# EAGLE library part ESP-WROOM-32 (library FRA_eagle_lib)
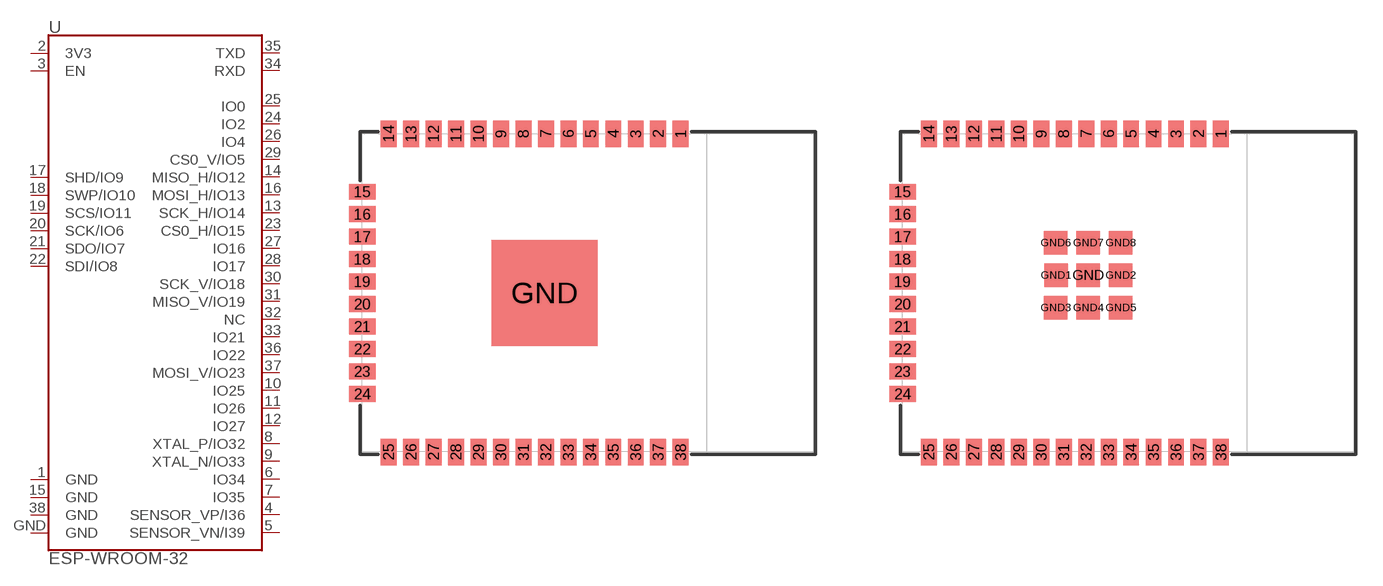
[diagram p3: symbol with the pads of ESP-WROOM-32; footprints ESP-WROOM-32, ESP-WROOM-32E]

Designator prefix U

## ESP-WROOM-32 (PROD_ID: IC-13849)  [ESP-WROOM-32]
1  GND
2  3V3
3  EN
4  SENSOR_VP/I36
5  SENSOR_VN/I39
6  IO34
7  IO35
8  XTAL_P/IO32
9  XTAL_N/IO33
10  IO25
11  IO26
12  IO27
13  SCK_H/IO14
14  MISO_H/IO12
15  GND
16  MOSI_H/IO13
17  SHD/IO9
18  SWP/IO10
19  SCS/IO11
20  SCK/IO6
21  SDO/IO7
22  SDI/IO8
23  CS0_H/IO15
24  IO2
25  IO0
26  IO4
27  IO16
28  IO17
29  CS0_V/IO5
30  SCK_V/IO18
31  MISO_V/IO19
32  NC
33  IO21
34  RXD
35  TXD
36  IO22
37  MOSI_V/IO23
38  GND
GND  GND

## ESP-WROOM-32E-VARIANT-GNDCHANGE  [ESP-WROOM-32E]
1  GND
2  3V3
3  EN
4  SENSOR_VP/I36
5  SENSOR_VN/I39
6  IO34
7  IO35
8  XTAL_P/IO32
9  XTAL_N/IO33
10  IO25
11  IO26
12  IO27
13  SCK_H/IO14
14  MISO_H/IO12
15  GND
16  MOSI_H/IO13
17  SHD/IO9
18  SWP/IO10
19  SCS/IO11
20  SCK/IO6
21  SDO/IO7
22  SDI/IO8
23  CS0_H/IO15
24  IO2
25  IO0
26  IO4
27  IO16
28  IO17
29  CS0_V/IO5
30  SCK_V/IO18
31  MISO_V/IO19
32  NC
33  IO21
34  RXD
35  TXD
36  IO22
37  MOSI_V/IO23
38  GND
GND  GND
GND1  GND
GND2  GND
GND3  GND
GND4  GND
GND5  GND
GND6  GND
GND7  GND
GND8  GND

## Footprint ESP-WROOM-32 (pad centres in mm)
smd 0.9 x 1.5: 1 7.7,9; 2 6.43,9; 3 5.16,9; 4 3.89,9; 5 2.62,9; 6 1.35,9; 7 0.08,9; 8 -1.19,9; 9 -2.46,9; 10 -3.73,9; 11 -5,9; 12 -6.27,9; 13 -7.54,9; 14 -8.81,9; 25 -8.81,-9; 26 -7.54,-9; 27 -6.27,-9; 28 -5,-9; 29 -3.73,-9; 30 -2.46,-9; 31 -1.19,-9; 32 0.08,-9; 33 1.35,-9; 34 2.62,-9; 35 3.89,-9; 36 5.16,-9; 37 6.43,-9; 38 7.7,-9
smd 1.5 x 0.9: 15 -10.3,5.715; 16 -10.3,4.445; 17 -10.3,3.175; 18 -10.3,1.905; 19 -10.3,0.635; 20 -10.3,-0.635; 21 -10.3,-1.905; 22 -10.3,-3.175; 23 -10.3,-4.445; 24 -10.3,-5.715
smd 6 x 6: GND 0,0

## Footprint ESP-WROOM-32E (pad centres in mm)
smd 0.9 x 1.5: 1 7.7,9; 2 6.43,9; 3 5.16,9; 4 3.89,9; 5 2.62,9; 6 1.35,9; 7 0.08,9; 8 -1.19,9; 9 -2.46,9; 10 -3.73,9; 11 -5,9; 12 -6.27,9; 13 -7.54,9; 14 -8.81,9; 25 -8.81,-9; 26 -7.54,-9; 27 -6.27,-9; 28 -5,-9; 29 -3.73,-9; 30 -2.46,-9; 31 -1.19,-9; 32 0.08,-9; 33 1.35,-9; 34 2.62,-9; 35 3.89,-9; 36 5.16,-9; 37 6.43,-9; 38 7.7,-9
smd 1.5 x 0.9: 15 -10.3,5.715; 16 -10.3,4.445; 17 -10.3,3.175; 18 -10.3,1.905; 19 -10.3,0.635; 20 -10.3,-0.635; 21 -10.3,-1.905; 22 -10.3,-3.175; 23 -10.3,-4.445; 24 -10.3,-5.715
smd 1.33 x 1.33: GND 0.2,1; GND1 -1.625,1; GND2 2.035,1; GND3 -1.635,-0.835; GND4 0.2,-0.835; GND5 2.035,-0.835; GND6 -1.635,2.835; GND7 0.2,2.835; GND8 2.035,2.835